# EAGLE library part HR911105A (library HR911105A)
Ethernet Connectors/Modular Connectors (RJ45 RJ11) DIP RoHS Source: Datasheet <https://datasheet.lcsc.com/szlcsc/Zhongshan-HanRun-Elec-HR911105A_C12074.pdf>
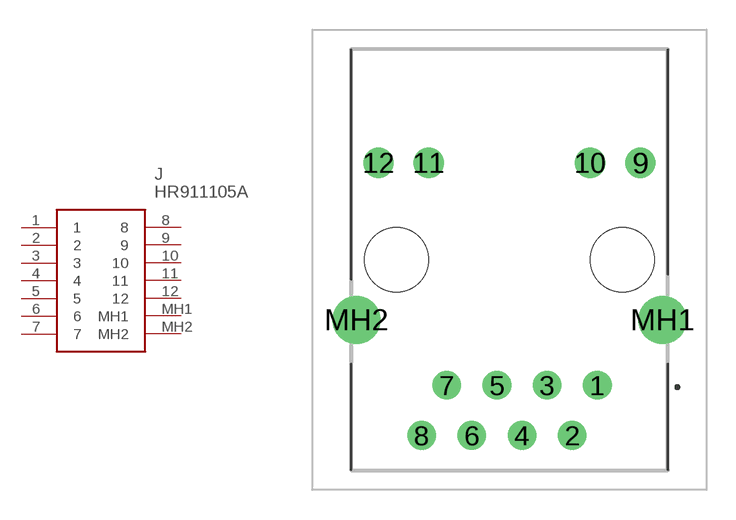
[diagram p0: symbol with the pads of HR911105A; footprint HR911105A]

Designator prefix J

## HR911105A (Description: Ethernet Connectors/Modular Connectors (RJ45 RJ11) DIP RoHS; Height: 13.75mm; Manufacturer_Name: Hanrun Electronics; Manufacturer_Part_Number: HR911105A)  [HR911105A]
1  1
2  2
3  3
4  4
5  5
6  6
7  7
8  8
9  9
10  10
11  11
12  12
MH1  MH1
MH2  MH2

## Footprint HR911105A (pad centres in mm)
HR911105A-1
drill 0.89 pad 1.446: 1 0,0; 2 -1.27,-2.54; 3 -2.54,0; 4 -3.81,-2.54; 5 -5.08,0; 6 -6.35,-2.54; 7 -7.62,0; 8 -8.89,-2.54
drill 1.02 pad 1.53: 9 2.18,11.25; 10 -0.36,11.25; 11 -8.53,11.25; 12 -11.07,11.25
drill 1.63 pad 2.445: MH1 3.3,3.3; MH2 -12.19,3.3
hole 3.25 at 1.27,6.35
hole 3.25 at -10.16,6.35